# Altium schematic symbol library personalparts.SchLib: 4 symbols
Pins are listed as number, name and electrical type; pins without a type are passive.

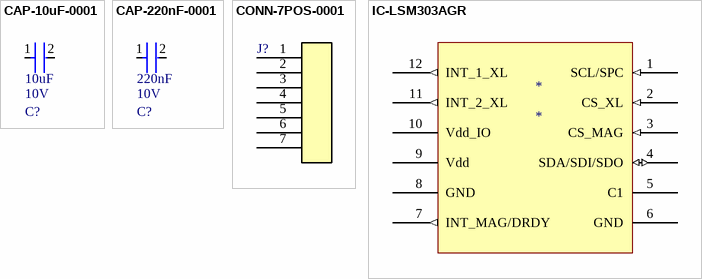
[diagram p0: symbols CAP-10uF-0001 to IC-LSM303AGR]

## CAP-10uF-0001
designator C?, comment Capacitance: 10uF  Voltage: 10V  (hidden comment: CC0805ZKY5V6BB106)
CAP CER 10UF 10V Y5V 0603; Device Class: Ceramic; Size: 1206; ComponentLink1Description: Datasheet; ComponentLink1URL: https://www.yageo.com/upload/media/product/productsearch/datasheet/mlcc/UPY-GPHC_X7R_6.3V-to-250V_24.pdf
footprint CAP-0603
pins: 1, 2

## CAP-220nF-0001
designator C?, comment Capacitance: 220nF  Voltage: 10V  (hidden comment: CC0402KRX5R6BB224)
CAP CER 0.22UF 10V X5R 0603; Device Class: Ceramic; Size: 1206; ComponentLink1Description: Datasheet; ComponentLink1URL: https://www.yageo.com/upload/media/product/productsearch/datasheet/mlcc/UPY-GPHC_X7R_6.3V-to-250V_24.pdf
footprint CAP-0603
pins: 1, 2

## CONN-7POS-0001
designator J?, comment 61300311121  (value not drawn)
CONN HEADER R/A 7POS 3MM; Current Rating: 3A; Voltage Rating: 250V; ComponentLink1Description: Datasheet; ComponentLink1URL: https://www.we-online.com/components/products/datasheet/61300311121.pdf
footprint CONN_PH1-07-UA_ADM
pins: 1 7, 2 8, 3 9, 4 9, 5 9, 6 9, 7 9

## IC-LSM303AGR
designator *
Accelerometer, Magnetometer, Temperature, 6 Axis Sensor I2C, SPI Output
footprint SON_03AGRTR_STM-M
pins: 1 SCL/SPC (in), 2 CS_XL (in), 3 CS_MAG (in), 4 SDA/SDI/SDO (io), 5 C1 (power), 6 GND (power), 7 INT_MAG/DRDY (out), 8 GND (power), 9 Vdd (power), 10 Vdd_IO (power), 11 INT_2_XL (out), 12 INT_1_XL (out)